# EAGLE library part ESP8266 (library Shiftbly-RF)
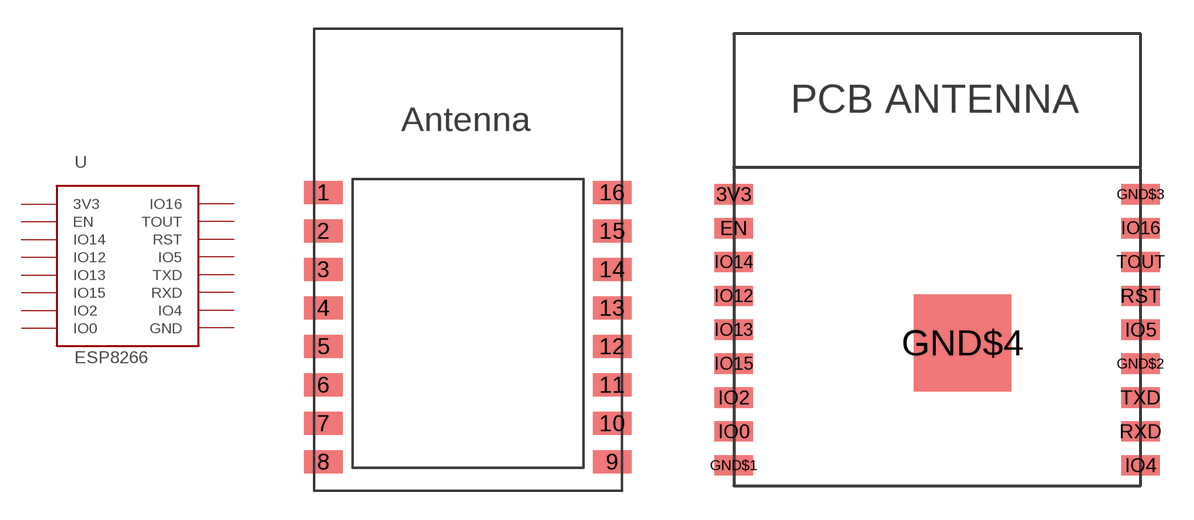
[diagram p0: symbol with the pads of ESP-12; footprints ESP-12, ESP-WROOM-02]

Designator prefix U

## ESP8266ESP-12  [ESP-12]
1  RST
2  TOUT
3  EN
4  IO16
5  IO14
6  IO12
7  IO13
8  3V3
9  TXD
10  RXD
11  IO4
12  IO5
13  IO0
14  IO2
15  IO15
16  GND

## ESP8266  [ESP-WROOM-02]
3V3  3V3
EN  EN
GND$1  GND
GND$2  GND
GND$3  GND
GND$4  GND
IO0  IO0
IO2  IO2
IO4  IO4
IO5  IO5
IO12  IO12
IO13  IO13
IO14  IO14
IO15  IO15
IO16  IO16
RST  RST
RXD  RXD
TOUT  TOUT
TXD  TXD

## Footprint ESP-12 (pad centres in mm)
smd 2 x 1.2: 1 -7.5,4.5; 2 -7.5,2.5; 3 -7.5,0.5; 4 -7.5,-1.5; 5 -7.5,-3.5; 6 -7.5,-5.5; 7 -7.5,-7.5; 8 -7.5,-9.5; 9 7.5,-9.5; 10 7.5,-7.5; 11 7.5,-5.5; 12 7.5,-3.5; 13 7.5,-1.5; 14 7.5,0.5; 15 7.5,2.5; 16 7.5,4.5

## Footprint ESP-WROOM-02 (pad centres in mm)
smd 1.7 x 0.9: 3V3 -9,2.9; EN -9,1.4; GND$1 -9,-9.1; GND$2 9,-4.6; GND$3 9,2.9; IO0 -9,-7.6; IO2 -9,-6.1; IO4 9,-9.1; IO5 9,-3.1; IO12 -9,-1.6; IO13 -9,-3.1; IO14 -9,-0.1; IO15 -9,-4.6; IO16 9,1.4; RST 9,-1.6; RXD 9,-7.6; TOUT 9,-0.1; TXD 9,-6.1
smd 4.3 x 4.3: GND$4 1.12,-3.68